# Altium schematic symbol library SparkFun-DiscreteSemi.SCHLIB: 51 symbols
Pins are listed as number, name and electrical type; pins without a type are passive.

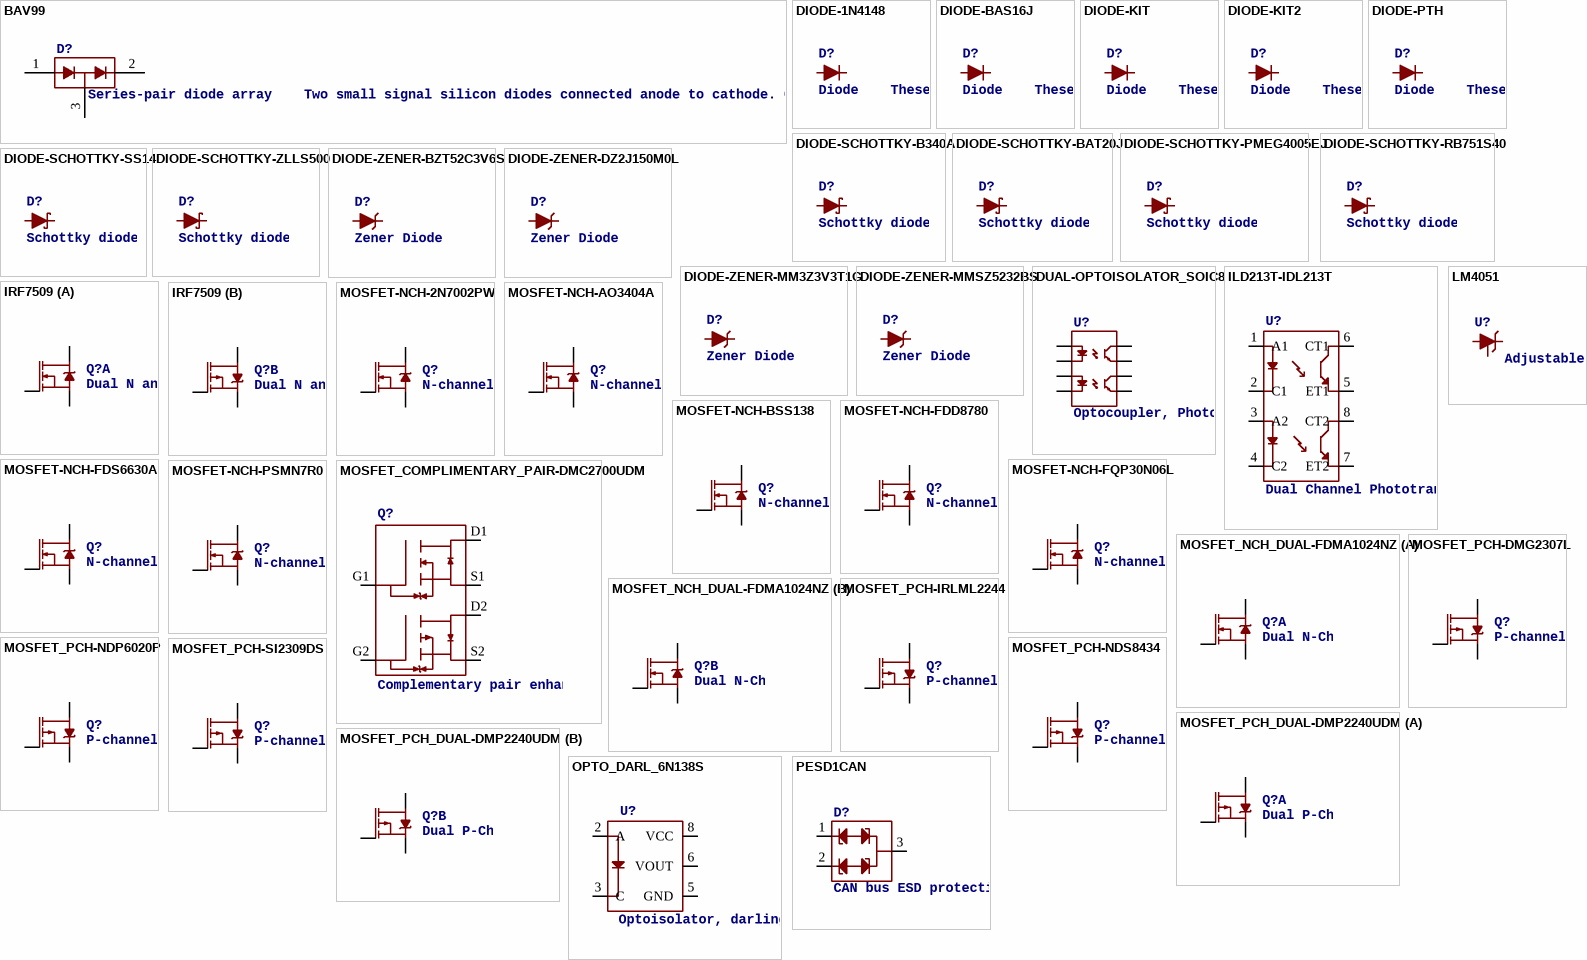
[diagram p0: symbols BAV99 to PESD1CAN]

## BAV99
designator D?, comment Series-pair diode array    Two small signal silicon diodes connected anode to cathode. Connections to all three nodes available.   Link to datasheet   SparkFun Products: SparkFun AutoDriver
PROD_ID: DIO-10647
footprint SOT23-3
pins: 1 A1, 2 C2, 3 COM

## DIODE-1N4148
designator D?, comment Diode    These are standard reverse protection diodes and small signal diodes.   SparkFun Products: SparkFun SparkPunk Sound Kit  SparkFun ESP8266 Thing
PROD_ID: DIO-08378
footprint DIODE-1N4148
pins: A, C

## DIODE-BAS16J
designator D?, comment Diode    These are standard reverse protection diodes and small signal diodes.   SparkFun Products: SparkFun SparkPunk Sound Kit  SparkFun ESP8266 Thing
PROD_ID: DIO-09646
footprint SOD-323
pins: A, C

## DIODE-KIT
designator D?, comment Diode    These are standard reverse protection diodes and small signal diodes.   SparkFun Products: SparkFun SparkPunk Sound Kit  SparkFun ESP8266 Thing
PROD_ID: DIO-08378
footprint DIODE-1N4148-KIT
pins: A, C

## DIODE-KIT2
designator D?, comment Diode    These are standard reverse protection diodes and small signal diodes.   SparkFun Products: SparkFun SparkPunk Sound Kit  SparkFun ESP8266 Thing
PROD_ID: DIO-09176
footprint DIODE-1N4001-KIT
pins: A, C

## DIODE-PTH
designator D?, comment Diode    These are standard reverse protection diodes and small signal diodes.   SparkFun Products: SparkFun SparkPunk Sound Kit  SparkFun ESP8266 Thing
PROD_ID: DIO-09176
footprint DIODE-1N4001
pins: A, C

## DIODE-SCHOTTKY-B340A
designator D?, comment Schottky diode    A Schottky diode is a semiconductor diode which has a low forward voltage drop and a very fast switching action.
PROD_ID: DIO-09886
footprint SMA-DIODE
pins: A, C

## DIODE-SCHOTTKY-BAT20J
designator D?, comment Schottky diode    A Schottky diode is a semiconductor diode which has a low forward voltage drop and a very fast switching action.
PROD_ID: DIO-11623
footprint SOD-323
pins: A, C

## DIODE-SCHOTTKY-PMEG4005EJ
designator D?, comment Schottky diode    A Schottky diode is a semiconductor diode which has a low forward voltage drop and a very fast switching action.
PROD_ID: DIO-10955
footprint SOD-323
pins: A, C

## DIODE-SCHOTTKY-RB751S40
designator D?, comment Schottky diode    A Schottky diode is a semiconductor diode which has a low forward voltage drop and a very fast switching action.
PROD_ID: DIO-11018
footprint SOD-523
pins: A, C

## DIODE-SCHOTTKY-SS14
designator D?, comment Schottky diode    A Schottky diode is a semiconductor diode which has a low forward voltage drop and a very fast switching action.
PROD_ID: DIO-08053
footprint SMA-DIODE
pins: A, C

## DIODE-SCHOTTKY-ZLLS500
designator D?, comment Schottky diode    A Schottky diode is a semiconductor diode which has a low forward voltage drop and a very fast switching action.
PROD_ID: DIO-08411
footprint SOT23-3
pins: 1 A, 3 C

## DIODE-ZENER-BZT52C3V6S
designator D?, comment Zener Diode    A Zener diode allows current to flow from its anode to its cathode like a normal semiconductor diode, but it also permits current to flow in the reverse direction when its "Zener voltage" is reached. - WIkipedia
PROD_ID: DIO-08199
footprint SOD-323
pins: A, C

## DIODE-ZENER-DZ2J150M0L
designator D?, comment Zener Diode    A Zener diode allows current to flow from its anode to its cathode like a normal semiconductor diode, but it also permits current to flow in the reverse direction when its "Zener voltage" is reached. - WIkipedia
PROD_ID: DIO-12989
footprint PANASONIC_SMINI2-F5-B
pins: A, C

## DIODE-ZENER-MM3Z3V3T1G
designator D?, comment Zener Diode    A Zener diode allows current to flow from its anode to its cathode like a normal semiconductor diode, but it also permits current to flow in the reverse direction when its "Zener voltage" is reached. - WIkipedia
PROD_ID: DIO-11284
footprint SOD-323
pins: A, C

## DIODE-ZENER-MMSZ5232BS
designator D?, comment Zener Diode    A Zener diode allows current to flow from its anode to its cathode like a normal semiconductor diode, but it also permits current to flow in the reverse direction when its "Zener voltage" is reached. - WIkipedia
PROD_ID: DIO-12442
footprint SOD-323
pins: A, C

## DUAL-OPTOISOLATOR_SOIC8
designator U?, comment Optocoupler, Phototransistor Output, Dual Channel    Optically coupled pairs with a gallium arsenide infrared LED and a silicon NPN phototransistor.   Signal information, including a DC level, can be transmitted by the device while maintaining a high degree of electrical isolation between input and output.   Datasheet    SparkFun Products: SparkFun Opto-isolator Breakout
PROD_ID: IC-09076
footprint SO08
pins: 1 A1, 2 C1, 3 A2, 4 C2, 5 EM2, 6 CL2, 7 EM1, 8 CL1

## ILD213T-IDL213T
designator U?, comment Dual Channel Phototransistor Optocoupler    Dual Channel 70 V 4000 Vrms Phototransistor Optocoupler in a standard SOIC-8 package. Used to couple signals between electrically isolated circuits. Datasheet    SparkFun Products: SparkFun Opto-Isolator Breakout
PROD_ID: IC-09076
footprint SO08
pins: 1 A1, 2 C1, 3 A2, 4 C2, 5 ET1, 6 CT1, 7 ET2, 8 CT2

## IRF7509
designator Q?, comment Dual N and P Channel MOSFET    Dual N/P-Channel 30V 1.25 W 7.8/7.5 nC Hexfet Power Mosfet Surface Mount-MICRO-8.   NMOS RDS(ON) 0.11Ω. PMOS RDS(ON) 0.20Ω.   Link to datasheet   SparkFun Products: SparkFun RedBot Mainboard  SparkFun Wake on Shake
PROD_ID: TRANS-07913
footprint MSOP8
part A pins: 1 S, 2 G, 7 8 D
part B pins: 3 S, 4 G, 5 6 D

## LM4051
designator U?, comment Adjustable Shunt Voltage Reference    SOT-23 package without need for external capacitor. Adjustable from 1.24V to 10V. 60µA to 12mA   SparkFun Products: SparkFun SparkPunk Sound Kit  SparkFun ESP8266 Thing
PROD_ID: IC-13134
footprint SOT23-3
pins: 1 ADJ, 2 C, 3 A

## MOSFET-NCH-2N7002PW
designator Q?, comment N-channel MOSFETs    Voltage controlled devices that allow control of high current outputs.   SparkFun Products: SparkFun OpenScale  SparkFun Digital Sandbox  SparkFun Monster Moto Shield  SparkFun MOSFET Power Controller
PROD_ID: TRANS-11151
footprint SOT323
pins: 1 G, 2 S, 3 D

## MOSFET-NCH-AO3404A
designator Q?, comment N-channel MOSFETs    Voltage controlled devices that allow control of high current outputs.   SparkFun Products: SparkFun OpenScale  SparkFun Digital Sandbox  SparkFun Monster Moto Shield  SparkFun MOSFET Power Controller
PROD_ID: TRANS-12988
footprint SOT23-3
pins: 1 G, 2 S, 3 D

## MOSFET-NCH-BSS138
designator Q?, comment N-channel MOSFETs    Voltage controlled devices that allow control of high current outputs.   SparkFun Products: SparkFun OpenScale  SparkFun Digital Sandbox  SparkFun Monster Moto Shield  SparkFun MOSFET Power Controller
PROD_ID: TRANS-00830
footprint SOT23-3
pins: 1 G, 2 S, 3 D

## MOSFET-NCH-FDD8780
designator Q?, comment N-channel MOSFETs    Voltage controlled devices that allow control of high current outputs.   SparkFun Products: SparkFun OpenScale  SparkFun Digital Sandbox  SparkFun Monster Moto Shield  SparkFun MOSFET Power Controller
PROD_ID: TRANS-09984
footprint DPAK
pins: 1 G, 3 S, 4 D

## MOSFET-NCH-FDS6630A
designator Q?, comment N-channel MOSFETs    Voltage controlled devices that allow control of high current outputs.   SparkFun Products: SparkFun OpenScale  SparkFun Digital Sandbox  SparkFun Monster Moto Shield  SparkFun MOSFET Power Controller
PROD_ID: TRANS-08089
footprint SO08
pins: 1 2 3 S, 4 G, 5 6 7 8 D

## MOSFET-NCH-FQP30N06L
designator Q?, comment N-channel MOSFETs    Voltage controlled devices that allow control of high current outputs.   SparkFun Products: SparkFun OpenScale  SparkFun Digital Sandbox  SparkFun Monster Moto Shield  SparkFun MOSFET Power Controller
PROD_ID: TRANS-10060
footprint TO220V
pins: 1 G, 2 D, 3 S

## MOSFET-NCH-PSMN7R0
designator Q?, comment N-channel MOSFETs    Voltage controlled devices that allow control of high current outputs.   SparkFun Products: SparkFun OpenScale  SparkFun Digital Sandbox  SparkFun Monster Moto Shield  SparkFun MOSFET Power Controller
PROD_ID: TRANS-12437
footprint TO-263/D2PAK
pins: 1 G, 2 D, 3 S

## MOSFET_COMPLIMENTARY_PAIR-DMC2700UDM
designator Q?, comment Complementary pair enhancement mode MOSFET    A P and N channel MOSFET in a single package. Rated to breakdown at 20V   Link to datasheet   SparkFun Products: ZX Distance and Gesture Sensor
PROD_ID: TRANS-11993
footprint SOT26
pins: D1, D2, G1, G2, S1, S2

## MOSFET_NCH_DUAL-FDMA1024NZ
designator Q?, comment Dual N-Channel 30-VDS MOSFET    Link to datasheet   SparkFun Products: SparkFun Mini FET Shield
PROD_ID: TRANS-09516
footprint MICROFET_2X2
part A pins: D1 D1_2 D, G1 G, S1 S
part B pins: D2 D2_2 D, G2 G, S2 S

## MOSFET_PCH-DMG2307L
designator Q?, comment P-channel MOSFETs    Voltage controlled devices that allow control of high current outputs.   SparkFun Products: SparkFun ESP32 Thing  SparkFun ESP8266 Thing
PROD_ID: TRANS-11308
footprint SOT23-3
pins: 1 G, 2 S, 3 D

## MOSFET_PCH-IRLML2244
designator Q?, comment P-channel MOSFETs    Voltage controlled devices that allow control of high current outputs.   SparkFun Products: SparkFun ESP32 Thing  SparkFun ESP8266 Thing
PROD_ID: TRANS-11153
footprint SOT23-3
pins: 1 G, 2 S, 3 D

## MOSFET_PCH-NDP6020P
designator Q?, comment P-channel MOSFETs    Voltage controlled devices that allow control of high current outputs.   SparkFun Products: SparkFun ESP32 Thing  SparkFun ESP8266 Thing
PROD_ID: TRANS-13060
footprint TO220V
pins: 1 G, 2 D, 3 S

## MOSFET_PCH-NDS8434
designator Q?, comment P-channel MOSFETs    Voltage controlled devices that allow control of high current outputs.   SparkFun Products: SparkFun ESP32 Thing  SparkFun ESP8266 Thing
PROD_ID: TRANS-08355
footprint SO08
pins: 1 2 3 S, 4 G, 5 6 7 8 D

## MOSFET_PCH-SI2309DS
designator Q?, comment P-channel MOSFETs    Voltage controlled devices that allow control of high current outputs.   SparkFun Products: SparkFun ESP32 Thing  SparkFun ESP8266 Thing
PROD_ID: TRANS-08285
footprint SOT23-3
pins: 1 G, 2 S, 3 D

## MOSFET_PCH_DUAL-DMP2240UDM
designator Q?, comment Dual P-Channel -20VDS MOSFET    Link to datasheet   SparkFun Products: SparkFun FreeSoC2 Development Board
PROD_ID: TRANS-12444
footprint SOT26
part A pins: D1 D, G1 G, S1 S
part B pins: D2 D, G2 G, S2 S

## OPTO_DARL_6N138S
designator U?, comment Optoisolator, darlington pair output    Optocoupler consisting of an AlGaAs LED optically coupled to a high gain split darlington photodetector.   SparkFun Products: SparkFun MIDI Shield
PROD_ID: IC-09482
footprint 8-SMD
pins: 2 A, 3 C, 5 GND, 6 VOUT, 8 VCC

## PESD1CAN
designator D?, comment CAN bus ESD protection diode    PESD1CAN is used to protect two CAN bus lines from ESD.   Link to datasheet   SparkFun Products: SparkFun CAN-BUS Shield
PROD_ID: DIO-12501
footprint SOT23-3
pins: 1, 2, 3

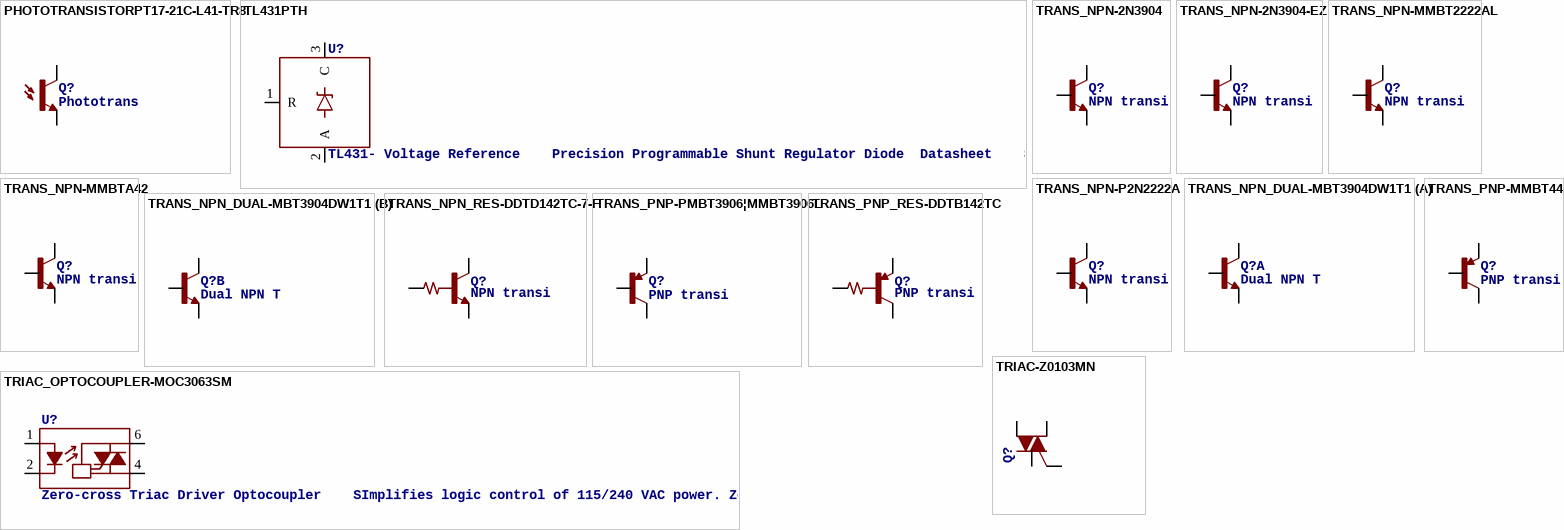
[diagram p1: symbols PHOTOTRANSISTORPT17-21C-L41-TR8 to TRIAC_OPTOCOUPLER-MOC3063SM]

## PHOTOTRANSISTORPT17-21C-L41-TR8
designator Q?, comment Phototransistor    PT17-21C/L41/TR8 is a phototransistor in miniature SMD package which is molded in a water clear with flat top view lens.  The device is Spectrally matched to visible and infrared emitting diode.  Datasheet    SparkFun Products: SparkFun Electric Imp imp002 Breakout
PROD_ID: TRANS-12141
footprint PT17-21C-L41-TR8
pins: C, E

## TL431PTH
designator U?, comment TL431- Voltage Reference    Precision Programmable Shunt Regulator Diode  Datasheet    SparkFun Products: TL431-Voltage Reference PTH  SparkFun Uh-Oh Battery Level Indicator
PROD_ID: IC-10947; SF_ID: COM-11078
footprint TO-92
pins: 1 R, 2 A, 3 C

## TRANS_NPN-2N3904
designator Q?, comment NPN transistor    Current controlled devices typically used to amplify current or used as a switch.         BC547 -     COM-08928    (TO-92 45V 100mA) (1.Collector 2.Base 3.Emitter)             2N3904 -     COM-00521    (TO-92 40V 200mA) (1.Emitter 2.Base 3.Collector)             P2N2222A -     COM-12852    (TO-92 40V 600mA) (1.Collector 2.Base 3.Emitter)
PROD_ID: TRANS-08447
footprint TO-92
pins: 1 E, 2 B, 3 C

## TRANS_NPN-2N3904-EZ
designator Q?, comment NPN transistor    Current controlled devices typically used to amplify current or used as a switch.         BC547 -     COM-08928    (TO-92 45V 100mA) (1.Collector 2.Base 3.Emitter)             2N3904 -     COM-00521    (TO-92 40V 200mA) (1.Emitter 2.Base 3.Collector)             P2N2222A -     COM-12852    (TO-92 40V 600mA) (1.Collector 2.Base 3.Emitter)
PROD_ID: TRANS-08447
footprint TO-92-EZ
pins: 1 E, 2 B, 3 C

## TRANS_NPN-MMBT2222AL
designator Q?, comment NPN transistor    Current controlled devices typically used to amplify current or used as a switch.         BC547 -     COM-08928    (TO-92 45V 100mA) (1.Collector 2.Base 3.Emitter)             2N3904 -     COM-00521    (TO-92 40V 200mA) (1.Emitter 2.Base 3.Collector)             P2N2222A -     COM-12852    (TO-92 40V 600mA) (1.Collector 2.Base 3.Emitter)
PROD_ID: TRANS-08049
footprint SOT23-3
pins: 1 B, 2 E, 3 C

## TRANS_NPN-MMBTA42
designator Q?, comment NPN transistor    Current controlled devices typically used to amplify current or used as a switch.         BC547 -     COM-08928    (TO-92 45V 100mA) (1.Collector 2.Base 3.Emitter)             2N3904 -     COM-00521    (TO-92 40V 200mA) (1.Emitter 2.Base 3.Collector)             P2N2222A -     COM-12852    (TO-92 40V 600mA) (1.Collector 2.Base 3.Emitter)
PROD_ID: TRANS-09116
footprint SOT23-3
pins: 1 B, 2 E, 3 C

## TRANS_NPN-P2N2222A
designator Q?, comment NPN transistor    Current controlled devices typically used to amplify current or used as a switch.         BC547 -     COM-08928    (TO-92 45V 100mA) (1.Collector 2.Base 3.Emitter)             2N3904 -     COM-00521    (TO-92 40V 200mA) (1.Emitter 2.Base 3.Collector)             P2N2222A -     COM-12852    (TO-92 40V 600mA) (1.Collector 2.Base 3.Emitter)
PROD_ID: TRANS-09536
footprint TO-92
pins: 1 C, 2 B, 3 E

## TRANS_NPN_DUAL-MBT3904DW1T1
designator Q?, comment Dual NPN Transistors in Single Package    The MBT3904W1 puts two general purpose 3904 NPN transistors in a single package.   Datasheet   SparkFun Products: SparkFun ESP32 Thing
PROD_ID: TRANS-13337
footprint SC70-6
part A pins: 3 C, 4 E, 5 B
part B pins: 1 E, 2 B, 6 C

## TRANS_NPN_RES-DDTD142TC-7-F
designator Q?, comment NPN transistor with built in base resistor    Current controlled device with built in current control for tighter layouts.   Link to datasheet.   SparkFun Products: SparkFun OpenSegment Serial Display - White  SparkFun OpenSegment Serial Display - Red
PROD_ID: TRANS-11480
footprint SOT23-3
pins: 1 B, 2 E, 3 C

## TRANS_PNP-MMBT4403
designator Q?, comment PNP transistor    Current controlled devices typically used to amplify current or used as a switch.   SparkFun Products: SparkFun Serial Enabled 16x2 LCD - Red on Black  SparkFun Logomatic
PROD_ID: TRANS-09245
footprint SOT23-3
pins: 1 B, 2 E, 3 C

## TRANS_PNP-PMBT3906|MMBT3906L
designator Q?, comment PNP transistor    Current controlled devices typically used to amplify current or used as a switch.   SparkFun Products: SparkFun Serial Enabled 16x2 LCD - Red on Black  SparkFun Logomatic
PROD_ID: TRANS-08052
footprint SOT23-3
pins: 1 B, 2 E, 3 C

## TRANS_PNP_RES-DDTB142TC
designator Q?, comment PNP transistor with built in base resistor    Current controlled device with built in current control for tighter layouts.   Link to datasheet.   SparkFun Products: SparkFun OpenSegment Serial Display - White  SparkFun OpenSegment Serial Display - Red
PROD_ID: TRANS-11479
footprint SOT23-3
pins: 1 B, 2 E, 3 C

## TRIAC-Z0103MN
designator Q?, comment Bidirectional triode thyristor (TRIAC)    Four quadrant TRIAC. Useful for EL Wire Applications     Link to datasheet   SparkFun Products: SparkFun EL Sequencer  SparkFun EL Escudo Dos
PROD_ID: TRANS-09120
footprint SOT223
pins: 1 T1, 2 T2@1, 3 G, 4 T2@2

## TRIAC_OPTOCOUPLER-MOC3063SM
designator U?, comment Zero-cross Triac Driver Optocoupler    SImplifies logic control of 115/240 VAC power. Zero voltage crossing to minimize conducted and radiated line noise.   Link to datasheet   Emitter: VF: 1.3V IFT: 5 mA   Detector: VDRM: 600V ITSM: 1A VISO: 4170V DV&frasl;dt: 1500V&frasl;µs   SparkFun Products: SparkFun EL Sequencer  SparkFun EL Escudo Dos
PROD_ID: IC-10683
footprint DIP8SMD
pins: 1 A, 2 K, 4 T2, 6 T1